# Altium schematic symbol library m_library.SchLib: 16 symbols
Pins are listed as number, name and electrical type; pins without a type are passive.

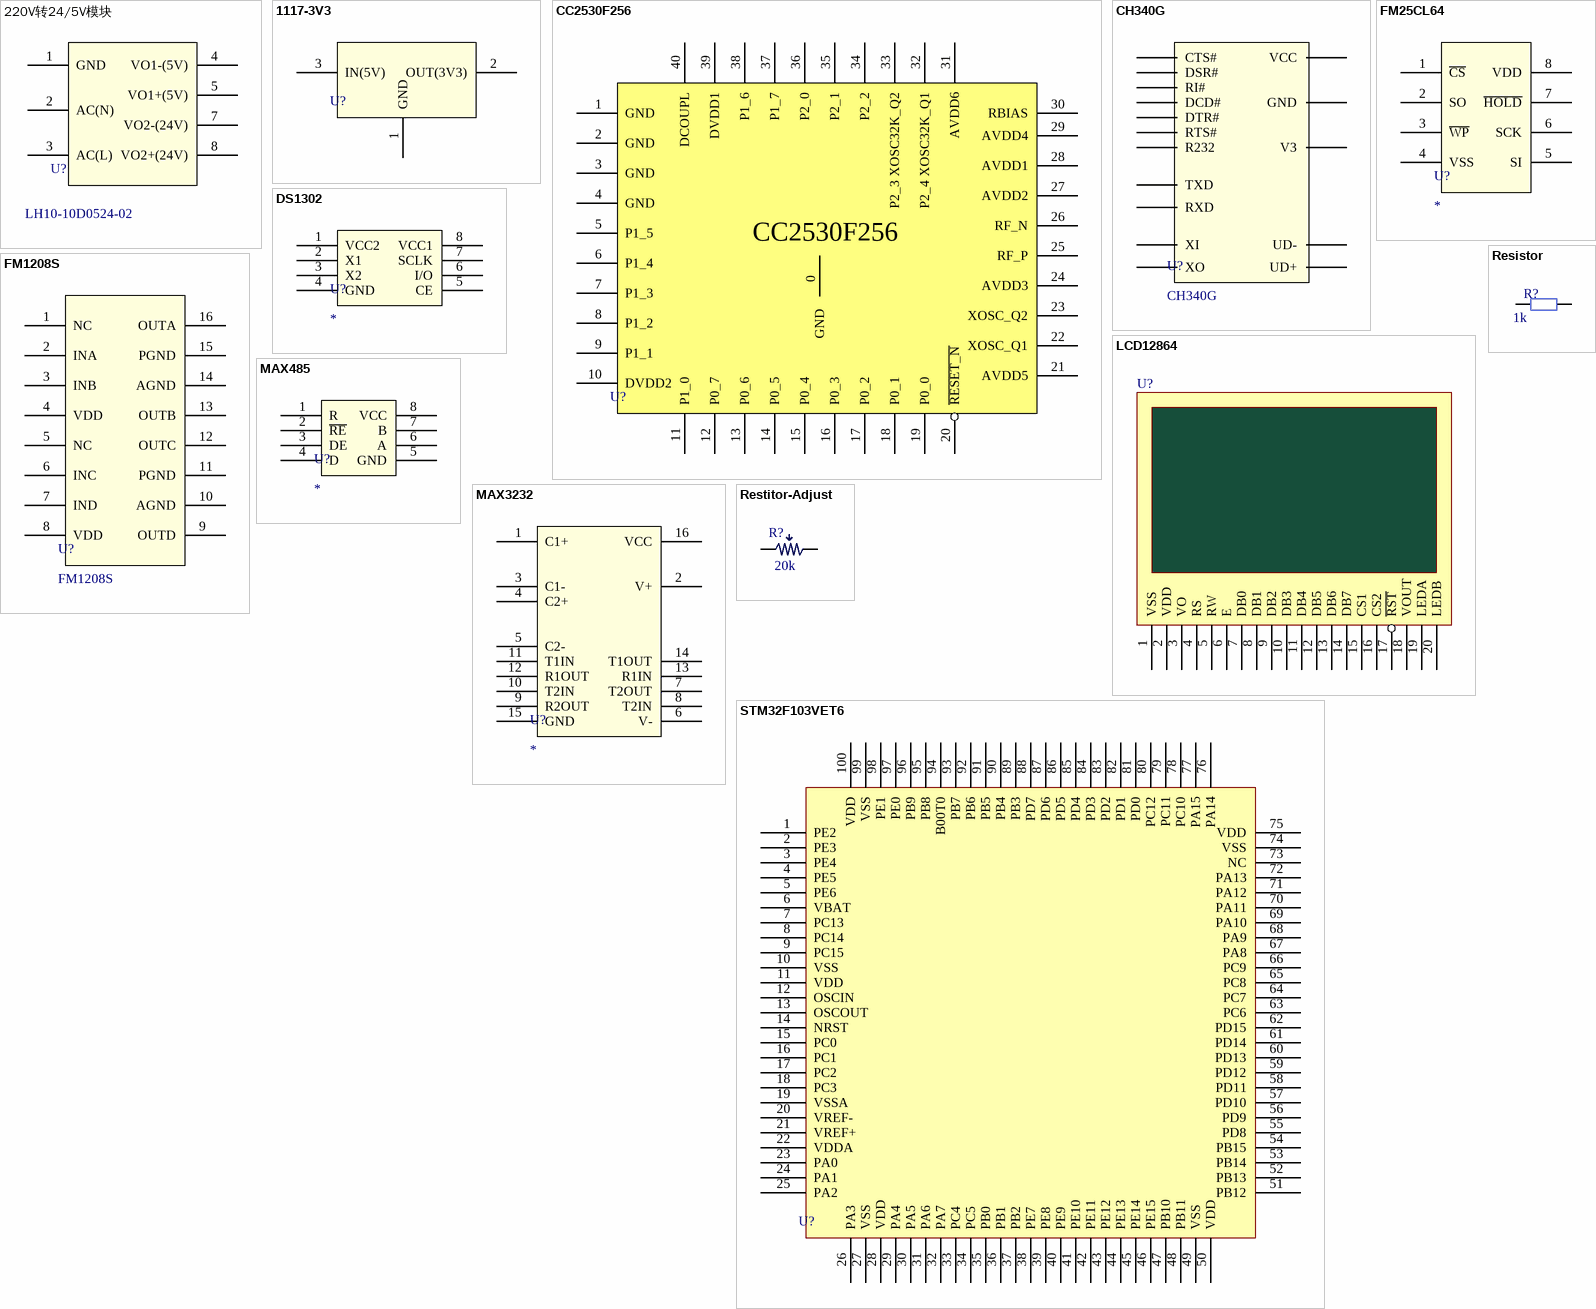
[diagram p0: symbols 220V转24/5V模块 to STM32F103VET6]

## 220V转24/5V模块
designator U?, comment LH10-10D0524-02
Name: LH10-10D0524-02
footprint LH电源模块55*45*21
pins: 1 GND, 2 AC(N), 3 AC(L), 4 VO1-(5V), 5 VO1+(5V), 7 VO2-(24V), 8 VO2+(24V)

## 1117-3V3
designator U?, comment 1117-3.3  (value not drawn)
AMS1117-3.3
footprint LC-SOT-223
pins: 1 GND, 2 OUT(3V3), 3 IN(5V)

## CC2530F256
designator U?  (value not drawn)
CC2530
footprint LC-QFN-40_6x6x05P
pins: 0 GND , 1 GND, 2 GND, 3 GND, 4 GND, 5 P1_5, 6 P1_4, 7 P1_3, 8 P1_2, 9 P1_1, 10 DVDD2, 11 P1_0, 12 P0_7, 13 P0_6, 14 P0_5, 15 P0_4, 16 P0_3, 17 P0_2, 18 P0_1, 19 P0_0, 20 ~{RESET}~{_N}, 21 AVDD5, 22 XOSC_Q1, 23 XOSC_Q2, 24 AVDD3, 25 RF_P, 26 RF_N, 27 AVDD2, 28 AVDD1, 29 AVDD4, 30 RBIAS, 31 AVDD6, 32 P2_4 XOSC32K_Q1, 33 P2_3 XOSC32K_Q2, 34 P2_2, 35 P2_1, 36 P2_0, 37 P1_7, 38 P1_6, 39 DVDD1, 40 DCOUPL

## CH340G
designator U?
footprint LC-SOP-16_150mil
pins: 1 GND, 2 TXD, 3 RXD, 4 V3, 5 UD+, 6 UD-, 7 XI, 8 XO, 9 CTS#, 10 DSR#, 11 RI#, 12 DCD#, 13 DTR#, 14 RTS#, 15 R232, 16 VCC

## DS1302
designator U?
DS1302-DIP
footprint LC-SOIC-8_150mil
pins: 1 VCC2, 2 X1, 3 X2, 4 GND, 5 CE, 6 I/O, 7 SCLK, 8 VCC1

## FM25CL64
designator U?
FM25CL64_8K
footprint LC-SOIC-8_150mil
pins: 1 ~{CS}, 2 SO, 3 ~{WP}, 4 VSS, 5 SI, 6 SCK, 7 ~{HOLD}, 8 VDD

## FM1208S
designator U?
1.3A*2/2.5A MAX 2.2-5.5V
pins: 1 NC, 2 INA, 3 INB, 4 VDD, 5 NC, 6 INC, 7 IND, 8 VDD, 9 OUTD, 10 AGND, 11 PGND, 12 OUTC, 13 OUTB, 14 AGND, 15 PGND, 16 OUTA

## LCD12864
designator U?  (value not drawn)
LCD12864TXA; HelpURL: D:\Altium\m_library\Doc\12864TXA说明书.pdf#page=3
pins: 1 VSS, 2 VDD, 3 VO, 4 RS, 5 RW, 6 E, 7 DB0, 8 DB1, 9 DB2, 10 DB3, 11 DB4, 12 DB5, 13 DB6, 14 DB7, 15 CS1, 16 CS2, 17 ~{RST}, 18 VOUT, 19 LEDA, 20 LEDB

## MAX485
designator U?
MAX485
footprint LC-SOIC-8_150mil
pins: 1 R, 2 ~{RE}, 3 DE, 4 D, 5 GND, 6 A, 7 B, 8 VCC

## MAX3232
designator U?
MAX3232
footprint LC-SOIC-16_150mil
pins: 1 C1+, 2 V+, 3 C1-, 4 C2+, 5 C2-, 6 V-, 7 T2OUT, 8 T2IN, 9 R2OUT, 10 T2IN, 11 T1IN, 12 R1OUT, 13 R1IN, 14 T1OUT, 15 GND, 16 VCC

## Resistor
designator R?, comment value 1k  (hidden comment: Res)
Resistor
footprint LC-0805
pins: 1, 2

## Restitor-Adjust
designator R?, comment value 20k  (hidden comment: AdjustRes)
Adjustable resistance
pins: 1, 2

## STM32F103VET6
designator U?  (value not drawn)
STM32F103VET6
footprint LC-LQFP-100_14x14x05P
pins: 1 PE2, 2 PE3, 3 PE4, 4 PE5, 5 PE6, 6 VBAT (power), 7 PC13, 8 PC14, 9 PC15, 10 VSS (power), 11 VDD (power), 12 OSCIN, 13 OSCOUT, 14 NRST, 15 PC0, 16 PC1, 17 PC2, 18 PC3, 19 VSSA (power), 20 VREF- (power), 21 VREF+ (power), 22 VDDA (power), 23 PA0, 24 PA1, 25 PA2, 26 PA3, 27 VSS (power), 28 VDD (power), 29 PA4, 30 PA5, 31 PA6, 32 PA7, 33 PC4, 34 PC5, 35 PB0, 36 PB1, 37 PB2, 38 PE7, 39 PE8, 40 PE9, 41 PE10, 42 PE11, 43 PE12, 44 PE13, 45 PE14, 46 PE15, 47 PB10, 48 PB11, 49 VSS (power), 50 VDD (power), 51 PB12, 52 PB13, 53 PB14, 54 PB15, 55 PD8, 56 PD9, 57 PD10, 58 PD11, 59 PD12, 60 PD13, 61 PD14, 62 PD15, 63 PC6, 64 PC7, 65 PC8, 66 PC9, 67 PA8, 68 PA9, 69 PA10, 70 PA11, 71 PA12, 72 PA13, 73 NC, 74 VSS, 75 VDD, 76 PA14, 77 PA15, 78 PC10, 79 PC11, 80 PC12, 81 PD0, 82 PD1, 83 PD2, 84 PD3, 85 PD4, 86 PD5, 87 PD6, 88 PD7, 89 PB3, 90 PB4, 91 PB5, 92 PB6, 93 PB7, 94 B00T0, 95 PB8, 96 PB9, 97 PE0, 98 PE1, 99 VSS (power), 100 VDD (power)

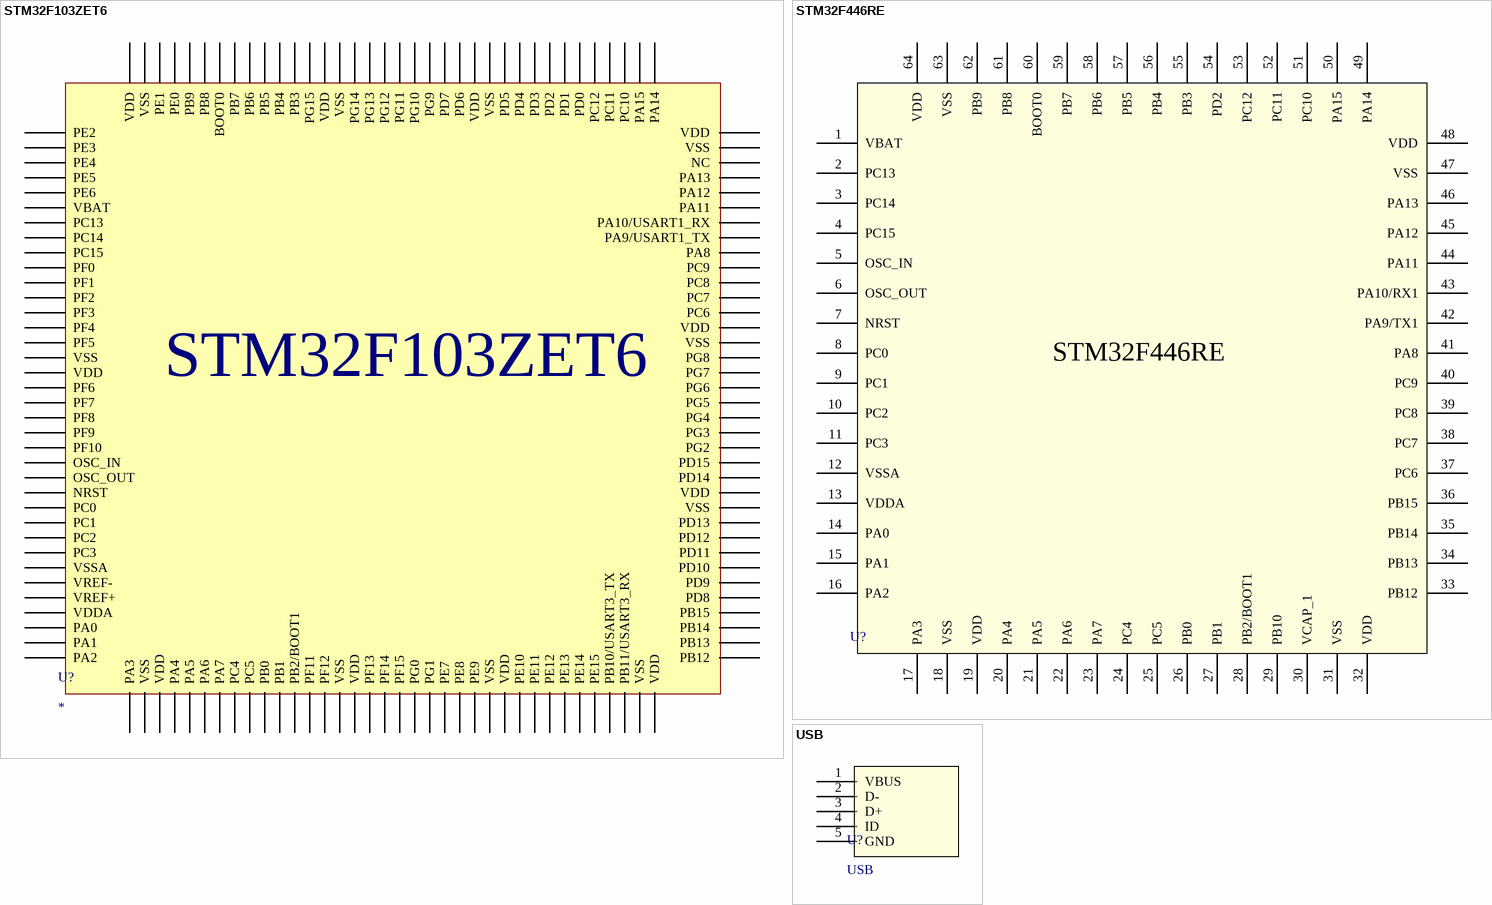
[diagram p1: symbols STM32F103ZET6 to USB]

## STM32F103ZET6
designator U?
STM32F103ZET6
footprint LC-LQFP-144_20x20x05P
pins: 1 PE2, 2 PE3, 3 PE4, 4 PE5, 5 PE6, 6 VBAT, 7 PC13, 8 PC14, 9 PC15, 10 PF0, 11 PF1, 12 PF2, 13 PF3, 14 PF4, 15 PF5, 16 VSS, 17 VDD, 18 PF6, 19 PF7, 20 PF8, 21 PF9, 22 PF10, 23 OSC_IN, 24 OSC_OUT, 25 NRST, 26 PC0, 27 PC1, 28 PC2, 29 PC3, 30 VSSA, 31 VREF-, 32 VREF+, 33 VDDA, 34 PA0, 35 PA1, 36 PA2, 37 PA3, 38 VSS, 39 VDD, 40 PA4, 41 PA5, 42 PA6, 43 PA7, 44 PC4, 45 PC5, 46 PB0, 47 PB1, 48 PB2/BOOT1, 49 PF11, 50 PF12, 51 VSS, 52 VDD, 53 PF13, 54 PF14, 55 PF15, 56 PG0, 57 PG1, 58 PE7, 59 PE8, 60 PE9, 61 VSS, 62 VDD, 63 PE10, 64 PE11, 65 PE12, 66 PE13, 67 PE14, 68 PE15, 69 PB10/USART3_TX, 70 PB11/USART3_RX, 71 VSS, 72 VDD, 73 PB12, 74 PB13, 75 PB14, 76 PB15, 77 PD8, 78 PD9, 79 PD10, 80 PD11, 81 PD12, 82 PD13, 83 VSS, 84 VDD, 85 PD14, 86 PD15, 87 PG2, 88 PG3, 89 PG4, 90 PG5, 91 PG6, 92 PG7, 93 PG8, 94 VSS, 95 VDD, 96 PC6, 97 PC7, 98 PC8, 99 PC9, 100 PA8, 101 PA9/USART1_TX, 102 PA10/USART1_RX, 103 PA11, 104 PA12, 105 PA13, 106 NC, 107 VSS, 108 VDD, 109 PA14, 110 PA15, 111 PC10, 112 PC11, 113 PC12, 114 PD0, 115 PD1, 116 PD2, 117 PD3, 118 PD4, 119 PD5, 120 VSS, 121 VDD, 122 PD6, 123 PD7, 124 PG9, 125 PG10, 126 PG11, 127 PG12, 128 PG13, 129 PG14, 130 VSS, 131 VDD, 132 PG15, 133 PB3, 134 PB4, 135 PB5, 136 PB6, 137 PB7, 138 BOOT0, 139 PB8, 140 PB9, 141 PE0, 142 PE1, 143 VSS, 144 VDD

## STM32F446RE
designator U?  (value not drawn)
LQFP64
pins: 1 VBAT, 2 PC13, 3 PC14, 4 PC15, 5 OSC_IN, 6 OSC_OUT, 7 NRST, 8 PC0, 9 PC1, 10 PC2, 11 PC3, 12 VSSA, 13 VDDA, 14 PA0, 15 PA1, 16 PA2, 17 PA3, 18 VSS, 19 VDD, 20 PA4, 21 PA5, 22 PA6, 23 PA7, 24 PC4, 25 PC5, 26 PB0, 27 PB1, 28 PB2/BOOT1, 29 PB10, 30 VCAP_1, 31 VSS, 32 VDD, 33 PB12, 34 PB13, 35 PB14, 36 PB15, 37 PC6, 38 PC7, 39 PC8, 40 PC9, 41 PA8, 42 PA9/TX1, 43 PA10/RX1, 44 PA11, 45 PA12, 46 PA13, 47 VSS, 48 VDD, 49 PA14, 50 PA15, 51 PC10, 52 PC11, 53 PC12, 54 PD2, 55 PB3, 56 PB4, 57 PB5, 58 PB6, 59 PB7, 60 BOOT0, 61 PB8, 62 PB9, 63 VSS, 64 VDD

## USB
designator U?
pins: 1 VBUS, 2 D-, 3 D+, 4 ID, 5 GND